# Altium footprint library SLO0630H Inductor.PcbLib: 1 footprints
Each footprint in its own frame and in the unit in brackets; x right, y up, seen from the top. Pads: shape width x height; smd on the part's side, far side on the other; paste and mask are expansions set on the pad; w line width, h text height; cw(c..) or ccw(c..) is an arc to the next point about the centre after c.
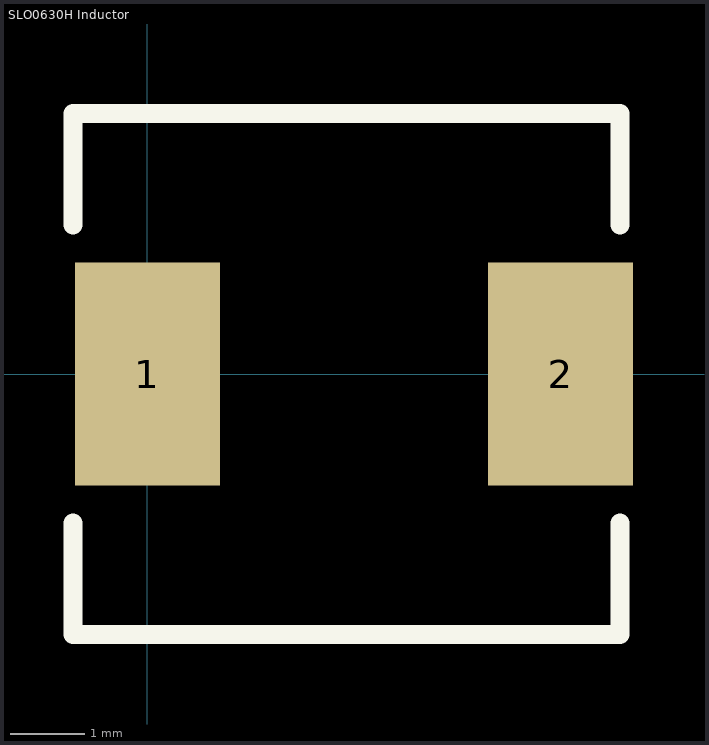
[diagram p0: the footprint, top view; thin cyan lines are the x and y axes]

## SLO0630H Inductor [mm]
height 5
pads (2):
  rect 1.95x3 smd: 1(0,0) 2(5.55,0)
Top Overlay:
  lines w0.254: -1,-2 -1,-3.5 -0.75,-3.5 6.35,-3.5 6.35,-2 ; -1,2 -1,3.5 -0.75,3.5 6.35,3.5 6.35,2
Mechanical 1:
  region: 0,2.25
3D body: height 4.22, standoff 0, extent 0,0 0,0
3D body: height 4.22, standoff 0, extent -0.75,-1.25 -0.75,-1.25
3D body: height 3, standoff 0, extent -0.8,-3.3 6.3,3.3